# Altium footprint library 2019-06-03_23-23-21.PcbLib: 3 footprints
Each footprint in its own frame and in the unit in brackets; x right, y up, seen from the top. Pads: shape width x height; smd on the part's side, far side on the other; paste and mask are expansions set on the pad; w line width, h text height; cw(c..) or ccw(c..) is an arc to the next point about the centre after c.
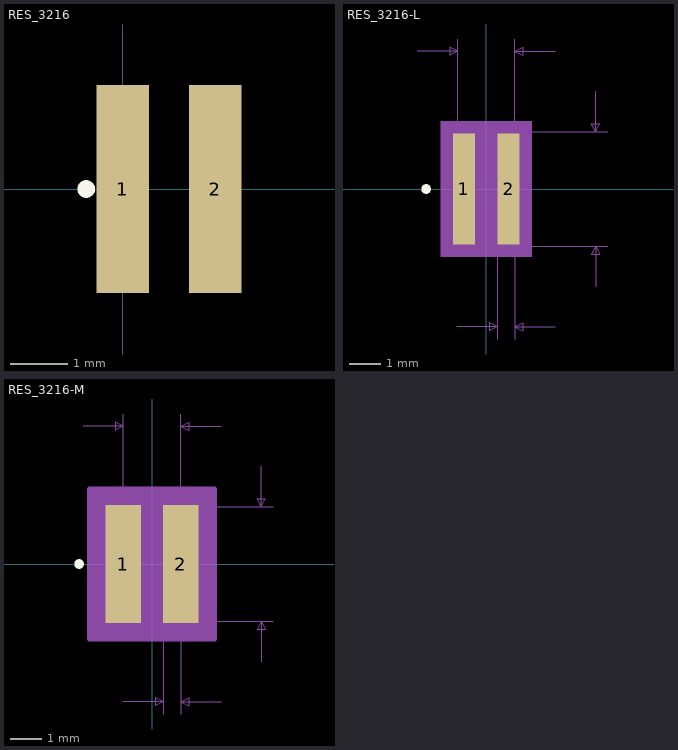
[diagram p0: the footprints below, top view; thin cyan lines are the x and y axes]

## RES_3216 [mm]
pads (2):
  rect 0.906x3.6 smd paste+0 mask+0: 1(0,0) 2(1.6,0)
Top Overlay:
  circle w0.152: c-0.635,0 r0.076
3D body "RES_3216-L.step": height 0.55, standoff 0, extent -0.138,-1.8 1.662,1.8

## RES_3216-L [mm]
pads (2):
  rect 0.702x3.498 smd paste+0 mask+0: 1(-0.701,0) 2(0.701,0)
Top Overlay:
  circle w0.152: c-1.891,0 r0.076
Mechanical 5:
  region: 1.433,-2.13 -1.433,-2.13 -1.433,2.13 1.433,2.13
Mechanical 7:
  lines w0.025: -2.17,4.34 -0.9,4.34 ; -0.92,-4.34 0.35,-4.34 ; -0.9,0 -0.9,4.721 ; 0,-1.8 3.821,-1.8 ; 0,1.8 3.821,1.8 ; 0.35,-4.721 0.35,0 ; 0.9,-4.721 0.9,0 0.9,4.721 ; 2.17,-4.34 0.9,-4.34 ; 2.17,4.34 0.9,4.34 ; 3.44,-3.07 3.44,-1.8 ; 3.44,3.07 3.44,1.8 ; -0.9,4.34 -1.154,4.467 -1.154,4.213 -0.9,4.34 ; 0.35,-4.34 0.096,-4.213 0.096,-4.467 0.35,-4.34 ; 0.9,-4.34 1.154,-4.213 1.154,-4.467 0.9,-4.34 ; 0.9,4.34 1.154,4.467 1.154,4.213 0.9,4.34 ; 3.44,-1.8 3.313,-2.054 3.567,-2.054 3.44,-1.8 ; 3.44,1.8 3.313,2.054 3.567,2.054 3.44,1.8
  text "Default Padstyle: RX27p65Y137p73D0T" at -11.112,-8.607 h1.27
  text "Alt 1 Padstyle: OX60Y90D30P" at -8.572,-10.131 h1.27
  text "Alt 2 Padstyle: OX90Y60D30P" at -8.572,-11.655 h1.27
  text "0.142in/3.6mm" at 3.948,-0.318 h0.64
  text "0.071in/1.8mm" at -2.064,4.848 h0.64
  text "0.022in/0.55mm" at -1.597,-5.483 h0.64
Mechanical 13:
  circle w0: c-0.574,0 r0.076
  lines w0.025: -0.9,-1.8 -0.9,1.8 ; -0.9,-1.8 -0.35,-1.8 -0.35,1.8 -0.9,1.8 ; -0.9,-1.8 0.9,-1.8 ; -0.9,-1.8 -0.9,1.8 ; -0.9,1.8 0.9,1.8 ; 0.9,-1.8 0.35,-1.8 0.35,1.8 0.9,1.8 ; 0.9,-1.8 0.9,1.8 ; 0.9,-1.8 0.9,1.8
Mechanical 15:
  region: 1.154,-1.851 -1.154,-1.851 -1.154,1.851 1.154,1.851
  lines w0.152: -1.154,-1.851 -1.154,1.851 1.154,1.851 1.154,-1.851 -1.154,-1.851
3D body: height 0.25, standoff 0, extent 0,0 0.254,0.254

## RES_3216-M [mm]
pads (2):
  rect 1.109x3.702 smd paste+0 mask+0: 1(-0.904,0) 2(0.904,0)
Top Overlay:
  circle w0.152: c-2.297,0 r0.076
Mechanical 5:
  region: 1.84,-2.232 -1.84,-2.232 -1.84,2.232 1.84,2.232
Mechanical 7:
  lines w0.025: -2.17,4.34 -0.9,4.34 ; -0.92,-4.34 0.35,-4.34 ; -0.9,0 -0.9,4.721 ; 0,-1.8 3.821,-1.8 ; 0,1.8 3.821,1.8 ; 0.35,-4.721 0.35,0 ; 0.9,-4.721 0.9,0 0.9,4.721 ; 2.17,-4.34 0.9,-4.34 ; 2.17,4.34 0.9,4.34 ; 3.44,-3.07 3.44,-1.8 ; 3.44,3.07 3.44,1.8 ; -0.9,4.34 -1.154,4.467 -1.154,4.213 -0.9,4.34 ; 0.35,-4.34 0.096,-4.213 0.096,-4.467 0.35,-4.34 ; 0.9,-4.34 1.154,-4.213 1.154,-4.467 0.9,-4.34 ; 0.9,4.34 1.154,4.467 1.154,4.213 0.9,4.34 ; 3.44,-1.8 3.313,-2.054 3.567,-2.054 3.44,-1.8 ; 3.44,1.8 3.313,2.054 3.567,2.054 3.44,1.8
  text "Default Padstyle: RX43p65Y145p73D0T" at -11.112,-8.709 h1.27
  text "Alt 1 Padstyle: OX60Y90D30P" at -8.572,-10.233 h1.27
  text "Alt 2 Padstyle: OX90Y60D30P" at -8.572,-11.757 h1.27
  text "0.142in/3.6mm" at 3.948,-0.318 h0.64
  text "0.071in/1.8mm" at -2.064,4.848 h0.64
  text "0.022in/0.55mm" at -1.597,-5.483 h0.64
Mechanical 13:
  circle w0: c-0.777,0 r0.076
  lines w0.025: -0.9,-1.8 -0.9,1.8 ; -0.9,-1.8 -0.35,-1.8 -0.35,1.8 -0.9,1.8 ; -0.9,-1.8 0.9,-1.8 ; -0.9,-1.8 -0.9,1.8 ; -0.9,1.8 0.9,1.8 ; 0.9,-1.8 0.35,-1.8 0.35,1.8 0.9,1.8 ; 0.9,-1.8 0.9,1.8 ; 0.9,-1.8 0.9,1.8
Mechanical 15:
  region: 1.967,-2.359 -1.967,-2.359 -1.967,2.359 1.967,2.359
  lines w0.152: -1.967,-2.359 -1.967,2.359 1.967,2.359 1.967,-2.359 -1.967,-2.359
3D body: height 0.25, standoff 0, extent 0,0 0.254,0.254